# Altium footprint library STM32F4DISCOVERY.PcbLib: 29 footprints (part 1 of 2)
Each footprint in its own frame and in the unit in brackets; x right, y up, seen from the top. Pads: shape width x height; smd on the part's side, far side on the other; paste and mask are expansions set on the pad; w line width, h text height; cw(c..) or ccw(c..) is an arc to the next point about the centre after c.
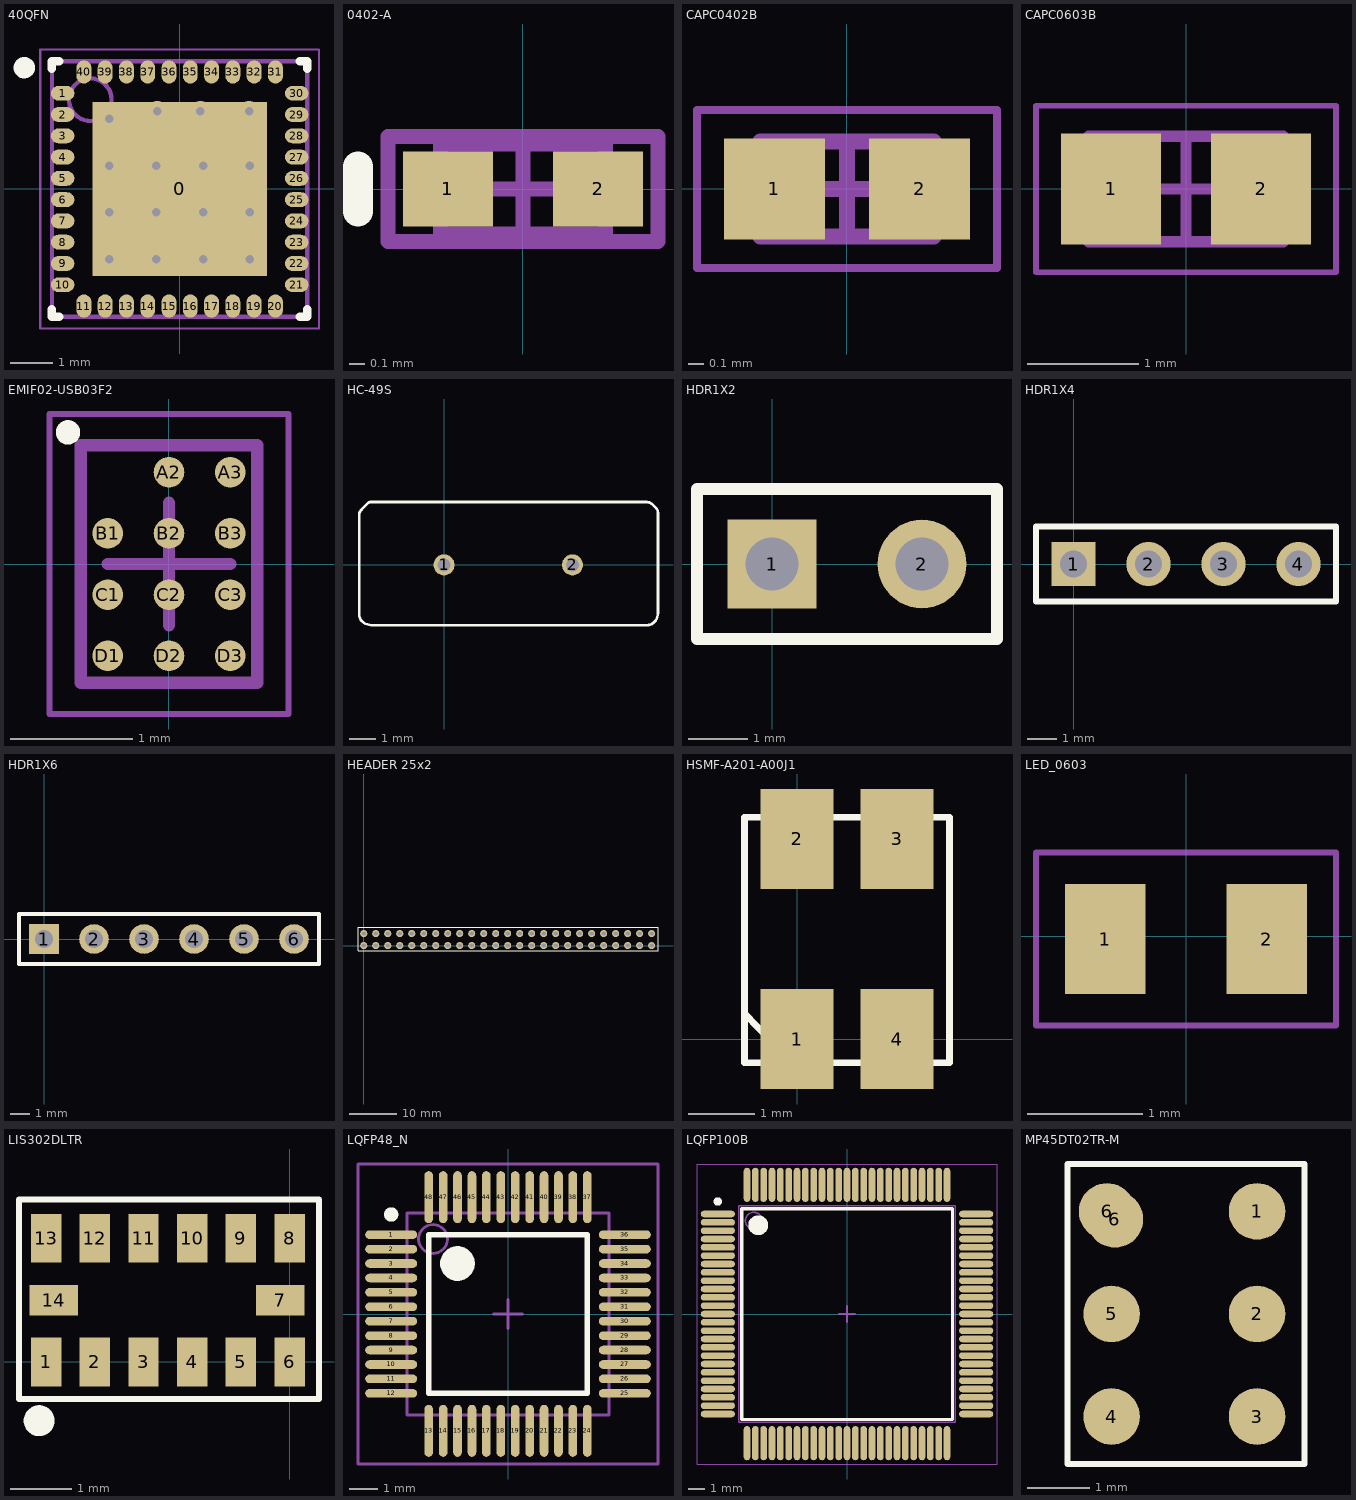
[diagram p0: the footprints below, top view; thin cyan lines are the x and y axes]

## 40QFN [mm]
pads (41):
  rect 4.1x4.1 smd: 0(0,0)
  oval 0.55x0.35 smd: 1(-2.75,2.25) 2(-2.75,1.75) 3(-2.75,1.25) 4(-2.75,0.75) 5(-2.75,0.25) 6(-2.75,-0.25) 7(-2.75,-0.75) 8(-2.75,-1.25) 9(-2.75,-1.75) 10(-2.75,-2.25) 21(2.75,-2.25) 22(2.75,-1.75) 23(2.75,-1.25) 24(2.75,-0.75) 25(2.75,-0.25) 26(2.75,0.25) 27(2.75,0.75) 28(2.75,1.25) 29(2.75,1.75) 30(2.75,2.25)
  oval 0.35x0.55 smd: 11(-2.25,-2.75) 12(-1.75,-2.75) 13(-1.25,-2.75) 14(-0.75,-2.75) 15(-0.25,-2.75) 16(0.25,-2.75) 17(0.75,-2.75) 18(1.25,-2.75) 19(1.75,-2.75) 20(2.25,-2.75) 31(2.25,2.75) 32(1.75,2.75) 33(1.25,2.75) 34(0.75,2.75) 35(0.25,2.75) 36(-0.25,2.75) 37(-0.75,2.75) 38(-1.25,2.75) 39(-1.75,2.75) 40(-2.25,2.75)
via 1.631,1.822 diameter 0.5 hole 0.2
via 0.488,1.822 diameter 0.5 hole 0.2
via -0.528,1.822 diameter 0.5 hole 0.2
via -1.65,1.65 diameter 0.5 hole 0.2
via -1.65,0.55 diameter 0.5 hole 0.2
via -0.55,0.55 diameter 0.5 hole 0.2
via 0.55,0.55 diameter 0.5 hole 0.2
via 1.65,0.55 diameter 0.5 hole 0.2
via -1.65,-0.55 diameter 0.5 hole 0.2
via -0.55,-0.55 diameter 0.5 hole 0.2
via 0.55,-0.55 diameter 0.5 hole 0.2
via 1.65,-0.55 diameter 0.5 hole 0.2
via -1.65,-1.65 diameter 0.5 hole 0.2
via -0.55,-1.65 diameter 0.5 hole 0.2
via 0.55,-1.65 diameter 0.5 hole 0.2
via 1.65,-1.65 diameter 0.5 hole 0.2
Top Overlay:
  circle w0.25: c-3.65,2.85 r0.125
  lines w0.2: -3,-2.825 -3,-3 -2.825,-3 ; -3,2.825 -3,3 -2.825,3 ; 2.825,-3 3,-3 3,-2.825 ; 2.825,3 3,3 3,2.825
Mechanical 13:
  circle w0.1: c-2.1,2.1 r0.5
  lines w0.1: -3,-3 -3,3 3,3 3,-3 -3,-3
Mechanical 15:
  lines w0.05: -3.275,-3.275 -3.275,3.275 3.275,3.275 3.275,-3.275 -3.275,-3.275
  lines w0.1: -0.5,0 0.5,0 ; 0,-0.5 0,0.5
3D body "40QFN.step": height 1, standoff 0, extent -3,-3 3,3

## 0402-A [mm]
pads (2):
  rect 0.6x0.5 smd: 1(-0.5,0) 2(0.5,0)
Top Overlay:
  lines w0.2: -1.1,-0.15 -1.1,0.15
Mechanical 13:
  lines w0.1: -0.55,-0.3 0.55,-0.3 0.55,0.3 -0.55,0.3 -0.55,-0.3
Mechanical 15:
  lines w0.1: -0.3,0 0.3,0 ; 0,-0.3 0,0.3 ; -0.9,-0.35 0.9,-0.35 0.9,0.35 -0.9,0.35 -0.9,-0.35
3D body: height 0.55, standoff 0, extent -0.55,-0.3 0.55,0.3

## CAPC0402B [mm]
pads (2):
  rect 0.64x0.64 smd: 1(-0.46,0) 2(0.46,0)
Mechanical 13:
  lines w0.1: -0.55,-0.3 -0.55,0.3 0.55,0.3 0.55,-0.3 -0.55,-0.3
Mechanical 15:
  lines w0.05: -0.95,-0.5 -0.95,0.5 0.95,0.5 0.95,-0.5 -0.95,-0.5
  lines w0.1: -0.3,0 0.3,0 ; 0,-0.3 0,0.3
3D body "CAPC0402B.step": height 0.6, standoff 0, extent -0.55,-0.3 0.55,0.3

## CAPC0603B [mm]
pads (2):
  rect 0.9x1 smd: 1(-0.675,0) 2(0.675,0)
Mechanical 13:
  lines w0.1: -0.875,-0.475 -0.875,0.475 0.875,0.475 0.875,-0.475 -0.875,-0.475
Mechanical 15:
  lines w0.05: -1.35,-0.75 -1.35,0.75 1.35,0.75 1.35,-0.75 -1.35,-0.75
  lines w0.1: -0.475,0 0.475,0 ; 0,-0.475 0,0.475
3D body "CAPC0603B.step": height 0.85, standoff 0, extent -0.875,-0.475 0.875,0.475

## EMIF02-USB03F2 [mm]
pads (11):
  round 0.25 smd: A2(0,0.75) A3(0.5,0.75) B1(-0.5,0.25) B2(0,0.25) B3(0.5,0.25) C1(-0.5,-0.25) C2(0,-0.25) C3(0.5,-0.25) D1(-0.5,-0.75) D2(0,-0.75) D3(0.5,-0.75)
Top Overlay:
  circle w0.1: c-0.825,1.075 r0.05
Mechanical 13:
  lines w0.1: -0.72,-0.97 0.72,-0.97 0.72,0.97 -0.72,0.97 -0.72,-0.97
Mechanical 15:
  lines w0.05: -0.975,-1.225 0.975,-1.225 0.975,1.225 -0.975,1.225 -0.975,-1.225
  lines w0.1: -0.5,0 0.5,0 ; 0,-0.5 0,0.5
3D body "EMIF02-USB03F2.step": height 0.65, standoff 0, extent -0.72,-0.97 0.72,0.97

## HC-49S [mm]
pads (2):
  round 0.8 hole 0.5: 1(0,0) 2(4.88,0)
Top Overlay:
  lines w0.1: -3.226,-1.882 ccw(c-2.864,-1.882) -3.12,-2.138 ccw(c-2.762,-1.781) -2.762,-2.286 7.722,-2.286 ccw(c7.722,-1.918) 7.982,-2.178 7.984,-2.176 ccw(c7.637,-1.829) 8.128,-1.829 8.128,1.93 8.128,1.975 ccw(c7.868,1.975) 8.052,2.159 7.913,2.298 ccw(c7.696,2.081) 7.696,2.388 -2.642,2.388 -2.809,2.388 ccw(c-2.809,2.301) -2.87,2.362 -3.136,2.096 ccw(c-2.919,1.88) -3.226,1.88 -3.226,-1.88
3D body "User Library-HC-49_LT_THT.STEP": height 3.6, standoff -1.99, extent -3.211,-2.299 8.139,2.351

## HDR1X2 [mm]
pads (2):
  rect 1.5x1.5 hole 0.9: 1(0,0)
  round 1.5 hole 0.9: 2(2.54,0)
Top Overlay:
  lines w0.2: -1.27,-1.27 -1.27,1.27 3.81,1.27 3.81,-1.27 -1.27,-1.27

## HDR1X4 [mm]
pads (4):
  rect 1.5x1.5 hole 0.9: 1(0,0)
  round 1.5 hole 0.9: 2(2.54,0) 3(5.08,0) 4(7.62,0)
Top Overlay:
  lines w0.2: -1.27,-1.27 8.89,-1.27 8.89,1.27 -1.27,1.27 -1.27,-1.27

## HDR1X6 [mm]
pads (6):
  rect 1.5x1.5 hole 0.9: 1(0,0)
  round 1.5 hole 0.9: 2(2.54,0) 3(5.08,0) 4(7.62,0) 5(10.16,0) 6(12.7,0)
Top Overlay:
  lines w0.2: -1.27,-1.27 13.97,-1.27 13.97,1.27 -1.27,1.27 -1.27,-1.27

## HEADER 25x2 [mm]
pads (50):
  round 1.5 hole 0.9: 1(0,0) 2(0,2.54) 3(2.54,0) 4(2.54,2.54) 5(5.08,0) 6(5.08,2.54) 7(7.62,0) 8(7.62,2.54) 9(10.16,0) 10(10.16,2.54) 11(12.7,0) 12(12.7,2.54) 13(15.24,0) 14(15.24,2.54) 15(17.78,0) 16(17.78,2.54) 17(20.32,0) 18(20.32,2.54) 19(22.86,0) 20(22.86,2.54) 21(25.4,0) 22(25.4,2.54) 23(27.94,0) 24(27.94,2.54) 25(30.48,0) 26(30.48,2.54) 27(33.02,0) 28(33.02,2.54) 29(35.56,0) 30(35.56,2.54) 31(38.1,0) 32(38.1,2.54) 33(40.64,0) 34(40.64,2.54) 35(43.18,0) 36(43.18,2.54) 37(45.72,0) 38(45.72,2.54) 39(48.26,0) 40(48.26,2.54) 41(50.8,0) 42(50.8,2.54) 43(53.34,0) 44(53.34,2.54) 45(55.88,0) 46(55.88,2.54) 47(58.42,0) 48(58.42,2.54) 49(60.96,0) 50(60.96,2.54)
Top Overlay:
  lines w0.1: -1.219,-1.067 -1.219,3.861 62.306,3.861 62.306,-1.067 -1.219,-1.067
3D body "6365.stp": height 9.25, standoff -2.9, extent -1.168,-1.168 62.332,3.912

## HSMF-A201-A00J1 [mm]
pads (4):
  rect 1.1x1.5 smd: 1(0,0) 2(0,3) 3(1.5,3) 4(1.5,0)
Top Overlay:
  lines w0.1: -0.787,0.381 -0.076,-0.356 ; -0.787,-0.356 -0.787,3.327 2.286,3.327 2.286,-0.356 -0.787,-0.356
3D body: height 1.87, standoff 0, extent -0.355,0.388 1.837,2.584
3D body: height 1.85, standoff 0, extent -0.787,-0.33 2.261,3.302

## LED_0603 [mm]
pads (2):
  rect 0.7x0.95 smd: 1(-0.7,-0.025) 2(0.7,-0.025)
Mechanical 15:
  lines w0.05: -1.3,-0.775 1.3,-0.775 1.3,0.725 -1.3,0.725 -1.3,-0.775
3D body "User Library-LED_0603_R.STEP": height 0.6, standoff 0, extent -0.8,-0.425 0.8,0.375

## LIS302DLTR [mm]
pads (14):
  rect 0.5x0.8 smd: 1(-4,0) 2(-3.2,0) 3(-2.4,0) 4(-1.6,0) 5(-0.8,0) 6(0,0) 8(0,2.032) 9(-0.8,2.032) 10(-1.6,2.032) 11(-2.4,2.032) 12(-3.2,2.032) 13(-4,2.032)
  rect 0.8x0.5 smd: 7(-0.152,1.016) 14(-3.873,1.016)
Top Overlay:
  circle w0.254: c-4.115,-0.965 r0.127
  lines w0.1: -4.445,-0.61 0.483,-0.61 0.483,2.667 -4.445,2.667 -4.445,-0.584 -4.445,-0.61
3D body: height 1, standoff 0, extent -4.445,-0.61 0.457,2.642

## LQFP48_N [mm]
pads (48):
  oval 1.8x0.3 smd: 1(-4.05,2.75) 2(-4.05,2.25) 3(-4.05,1.75) 4(-4.05,1.25) 5(-4.05,0.75) 6(-4.05,0.25) 7(-4.05,-0.25) 8(-4.05,-0.75) 9(-4.05,-1.25) 10(-4.05,-1.75) 11(-4.05,-2.25) 12(-4.05,-2.75) 25(4.05,-2.75) 26(4.05,-2.25) 27(4.05,-1.75) 28(4.05,-1.25) 29(4.05,-0.75) 30(4.05,-0.25) 31(4.05,0.25) 32(4.05,0.75) 33(4.05,1.25) 34(4.05,1.75) 35(4.05,2.25) 36(4.05,2.75)
  oval 0.3x1.8 smd: 13(-2.75,-4.05) 14(-2.25,-4.05) 15(-1.75,-4.05) 16(-1.25,-4.05) 17(-0.75,-4.05) 18(-0.25,-4.05) 19(0.25,-4.05) 20(0.75,-4.05) 21(1.25,-4.05) 22(1.75,-4.05) 23(2.25,-4.05) 24(2.75,-4.05) 37(2.75,4.05) 38(2.25,4.05) 39(1.75,4.05) 40(1.25,4.05) 41(0.75,4.05) 42(0.25,4.05) 43(-0.25,4.05) 44(-0.75,4.05) 45(-1.25,4.05) 46(-1.75,4.05) 47(-2.25,4.05) 48(-2.75,4.05)
Top Overlay:
  circle w0.25: c-4.05,3.45 r0.125
  circle w0.6: c-1.75,1.75 r0.3
  lines w0.2: -2.75,-2.75 -2.75,2.75 2.75,2.75 2.75,-2.75 -2.75,-2.75
Mechanical 13:
  circle w0.1: c-2.6,2.6 r0.5
  lines w0.1: -3.5,-3.5 -3.5,3.5 3.5,3.5 3.5,-3.5 -3.5,-3.5
Mechanical 15:
  lines w0.1: -0.5,0 0.5,0 ; 0,-0.5 0,0.5 ; -5.2,-5.2 -5.2,5.2 5.2,5.2 5.2,-5.2 -5.2,-5.2
3D body: height 1.6, standoff 0, extent -3.5,-3.5 3.5,3.5

## LQFP100B [mm]
pads (100):
  oval 2.05x0.4 smd: 1(-7.75,6) 2(-7.75,5.5) 3(-7.75,5) 4(-7.75,4.5) 5(-7.75,4) 6(-7.75,3.5) 7(-7.75,3) 8(-7.75,2.5) 9(-7.75,2) 10(-7.75,1.5) 11(-7.75,1) 12(-7.75,0.5) 13(-7.75,0) 14(-7.75,-0.5) 15(-7.75,-1) 16(-7.75,-1.5) 17(-7.75,-2) 18(-7.75,-2.5) 19(-7.75,-3) 20(-7.75,-3.5) 21(-7.75,-4) 22(-7.75,-4.5) 23(-7.75,-5) 24(-7.75,-5.5) 25(-7.75,-6) 51(7.75,-6) 52(7.75,-5.5) 53(7.75,-5) 54(7.75,-4.5) 55(7.75,-4) 56(7.75,-3.5) 57(7.75,-3) 58(7.75,-2.5) 59(7.75,-2) 60(7.75,-1.5) 61(7.75,-1) 62(7.75,-0.5) 63(7.75,0) 64(7.75,0.5) 65(7.75,1) 66(7.75,1.5) 67(7.75,2) 68(7.75,2.5) 69(7.75,3) 70(7.75,3.5) 71(7.75,4) 72(7.75,4.5) 73(7.75,5) 74(7.75,5.5) 75(7.75,6)
  oval 0.4x2.05 smd: 26(-6,-7.75) 27(-5.5,-7.75) 28(-5,-7.75) 29(-4.5,-7.75) 30(-4,-7.75) 31(-3.5,-7.75) 32(-3,-7.75) 33(-2.5,-7.75) 34(-2,-7.75) 35(-1.5,-7.75) 36(-1,-7.75) 37(-0.5,-7.75) 38(0,-7.75) 39(0.5,-7.75) 40(1,-7.75) 41(1.5,-7.75) 42(2,-7.75) 43(2.5,-7.75) 44(3,-7.75) 45(3.5,-7.75) 46(4,-7.75) 47(4.5,-7.75) 48(5,-7.75) 49(5.5,-7.75) 50(6,-7.75) 76(6,7.75) 77(5.5,7.75) 78(5,7.75) 79(4.5,7.75) 80(4,7.75) 81(3.5,7.75) 82(3,7.75) 83(2.5,7.75) 84(2,7.75) 85(1.5,7.75) 86(1,7.75) 87(0.5,7.75) 88(0,7.75) 89(-0.5,7.75) 90(-1,7.75) 91(-1.5,7.75) 92(-2,7.75) 93(-2.5,7.75) 94(-3,7.75) 95(-3.5,7.75) 96(-4,7.75) 97(-4.5,7.75) 98(-5,7.75) 99(-5.5,7.75) 100(-6,7.75)
Top Overlay:
  circle w0.6: c-5.325,5.325 r0.3
  circle w0.25: c-7.75,6.75 r0.125
  lines w0.2: -6.325,-6.325 6.325,-6.325 6.325,6.325 -6.325,6.325 -6.325,-6.325
Mechanical 13:
  circle w0.1: c-5.6,5.6 r0.5
  lines w0.1: -6.5,-6.5 6.5,-6.5 6.5,6.5 -6.5,6.5 -6.5,-6.5
Mechanical 15:
  lines w0.05: -9,-9 9,-9 9,9 -9,9 -9,-9
  lines w0.1: -0.5,0 0.5,0 ; 0,-0.5 0,0.5
3D body: height 1.6, standoff 0.05, extent -6.5,-6.5 6.5,6.5

## MP45DT02TR-M [mm]
pads (7):
  round 0.91 smd: 1(4.572,-1.778) 2(4.572,-3.428) 3(4.572,-5.078) 4(2.232,-5.078) 5(2.232,-3.428) 6(2.159,-1.778) 6(2.286,-1.905)
Top Overlay:
  lines w0.1: 1.524,-5.842 5.334,-5.842 5.334,-5.08 5.334,-1.016 1.524,-1.016 1.524,-5.842
3D body: height 1.25, standoff 0, extent 1.524,-5.842 5.334,-1.016